# EAGLE library part HEADER2X6 (library robots)
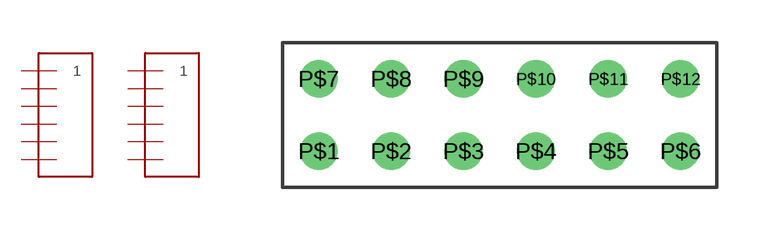
[diagram p11: symbol with the pads of 2X6; footprint 2X6]

Designator prefix -; gates G$1=1X6 G$2=1X6

## HEADER2X6  [2X6]
P$1  G$1:1
P$2  G$1:P$2
P$3  G$1:P$3
P$4  G$1:P$4
P$5  G$1:P$5
P$6  G$1:P$6
P$7  G$2:1
P$8  G$2:P$2
P$9  G$2:P$3
P$10  G$2:P$4
P$11  G$2:P$5
P$12  G$2:P$6

## Footprint 2X6 (pad centres in mm)
drill 0.813 round: P$1 0,0; P$2 2.54,0; P$3 5.08,0; P$4 7.62,0; P$5 10.16,0; P$6 12.7,0; P$7 0,2.54; P$8 2.54,2.54; P$9 5.08,2.54; P$10 7.62,2.54; P$11 10.16,2.54; P$12 12.7,2.54